# Altium footprint library TO546P531X1558X2499-3P.PcbLib: 1 footprints
Each footprint in its own frame and in the unit in brackets; x right, y up, seen from the top. Pads: shape width x height; smd on the part's side, far side on the other; paste and mask are expansions set on the pad; w line width, h text height; cw(c..) or ccw(c..) is an arc to the next point about the centre after c.
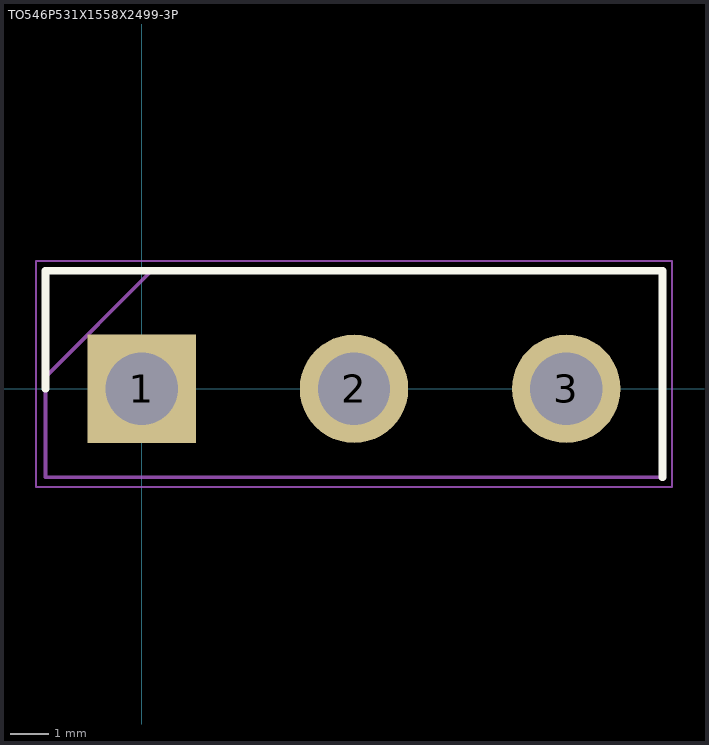
[diagram p0: the footprint, top view; thin cyan lines are the x and y axes]

## TO546P531X1558X2499-3P [mm]
pads (3):
  rect 2.79x2.79 / inner round 2.79 / far side rect 2.79x2.79 hole 1.86: 1(0,0)
  round 2.79 hole 1.86: 2(5.46,0) 3(10.92,0)
Top Overlay:
  lines w0.2: -2.475,0 -2.475,3.035 13.395,3.035 13.395,-2.275
Mechanical 15:
  lines w0.1: -2.475,0.305 0.255,3.035 ; -2.475,-2.275 13.395,-2.275 13.395,3.035 -2.475,3.035 -2.475,-2.275
Mechanical 20:
  lines w0.05: -2.725,-2.525 13.645,-2.525 13.645,3.285 -2.725,3.285 -2.725,-2.525